# EAGLE library part RASPBERRY_PI_B+_SHORT (library RASPBERRY_PI_Bplus)
Raspberry Pi B+ Based on issue: Thursday, July 10, 2014 - Rev 1.2 LBR by Tim R. 07-2014
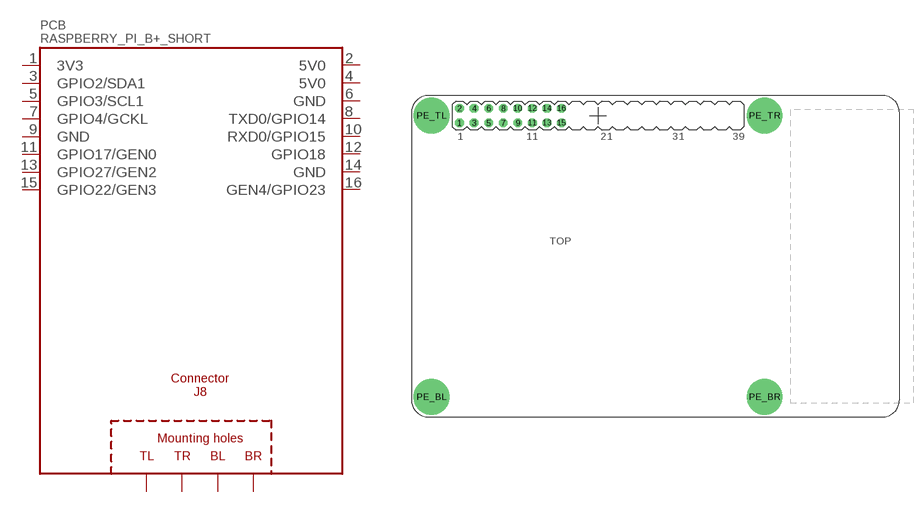
[diagram p1: symbol with the pads of RASPBERRY_PI_B+_SHORT; footprint RASPBERRY_PI_B+_SHORT]

Designator prefix PCB

## RASPBERRY_PI_B+_SHORT  [RASPBERRY_PI_B+_SHORT]
1  3V3  sup
2  5V0  sup
3  GPIO2/SDA1
4  5V0  sup
5  GPIO3/SCL1
6  GND  sup
7  GPIO4/GCKL
8  TXD0/GPIO14
9  GND  sup
10  RXD0/GPIO15
11  GPIO17/GEN0
12  GPIO18
13  GPIO27/GEN2
14  GND  sup
15  GPIO22/GEN3
16  GEN4/GPIO23
PE_BL  BL
PE_BR  BR
PE_TL  TL
PE_TR  TR

## Footprint RASPBERRY_PI_B+_SHORT (pad centres in mm)
drill 1.016 octagon: 1 8.37,51.23; 2 8.37,53.77; 3 10.91,51.23; 4 10.91,53.77; 5 13.45,51.23; 6 13.45,53.77; 7 15.99,51.23; 8 15.99,53.77; 9 18.53,51.23; 10 18.53,53.77; 11 21.07,51.23; 12 21.07,53.77; 13 23.61,51.23; 14 23.61,53.77; 15 26.15,51.23; 16 26.15,53.77
drill 2.75 pad 6.2: PE_BL 3.5,3.5; PE_BR 61.5,3.5; PE_TL 3.5,52.5; PE_TR 61.5,52.5